# EAGLE library part JST-PA-06-RT (library SparkFun-Connectors)
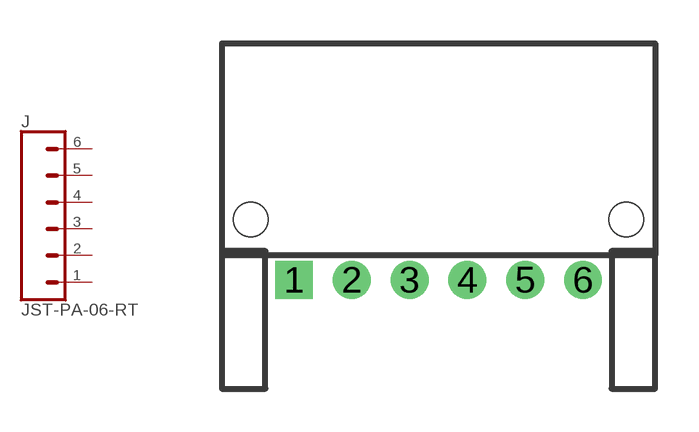
[diagram p64: symbol with the pads of 1X6-JST-PA; footprint 1X6-JST-PA]

Designator prefix J

## JST-PA-06-RT  [1X6-JST-PA]
1  1  pas
2  2  pas
3  3  pas
4  4  pas
5  5  pas
6  6  pas

## Footprint 1X6-JST-PA (pad centres in mm)
Plated Through Hole -10 Pin 2mm Specifications: Pin count:10 Pin pitch:2mm Datasheet referenced for footprint <https://www.sparkfun.com/datasheets/Prototyping/XBee-Connector.pdf> Example device(s): CONN_10
drill 0.8 square: 1 0,0
drill 0.8: 2 2,0; 3 4,0; 4 6,0; 5 8,0; 6 10,0
hole 1.2 at 11.5,2.1
hole 1.2 at -1.5,2.1